# Altium footprint library SOD323-SPE-BZX384.PcbLib: 1 footprints
Each footprint in its own frame and in the unit in brackets; x right, y up, seen from the top. Pads: shape width x height; smd on the part's side, far side on the other; paste and mask are expansions set on the pad; w line width, h text height; cw(c..) or ccw(c..) is an arc to the next point about the centre after c.
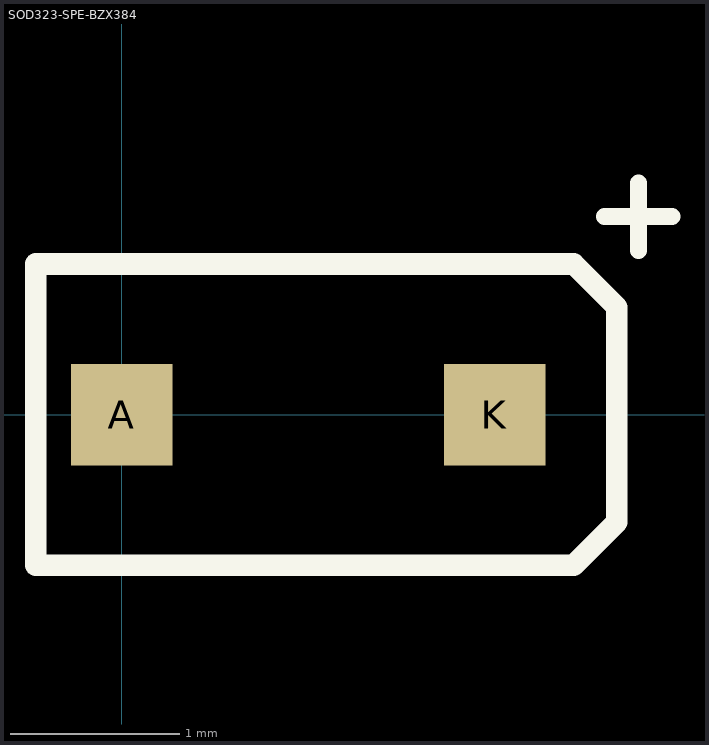
[diagram p0: the footprint, top view; thin cyan lines are the x and y axes]

## SOD323-SPE-BZX384 [mm]
height 2.5
pads (2):
  rect 0.6x0.6 smd: A(0,0) K(2.2,0)
Top Overlay:
  lines w0.1: 2.848,1.168 3.248,1.168 ; 3.048,0.968 3.048,1.368
  lines w0.127: -0.508,-0.889 -0.508,0.889 -0.381,0.889 2.667,0.889 2.921,0.635 2.921,-0.635 2.667,-0.889 -0.508,-0.889
3D body: height 0.95, standoff -0.04, extent -0.158,-0.635 2.342,0.615